# Altium footprint library Components - 09.08.24 - 10.35.PcbLib: 1 footprints
Each footprint in its own frame and in the unit in brackets; x right, y up, seen from the top. Pads: shape width x height; smd on the part's side, far side on the other; paste and mask are expansions set on the pad; w line width, h text height; cw(c..) or ccw(c..) is an arc to the next point about the centre after c.
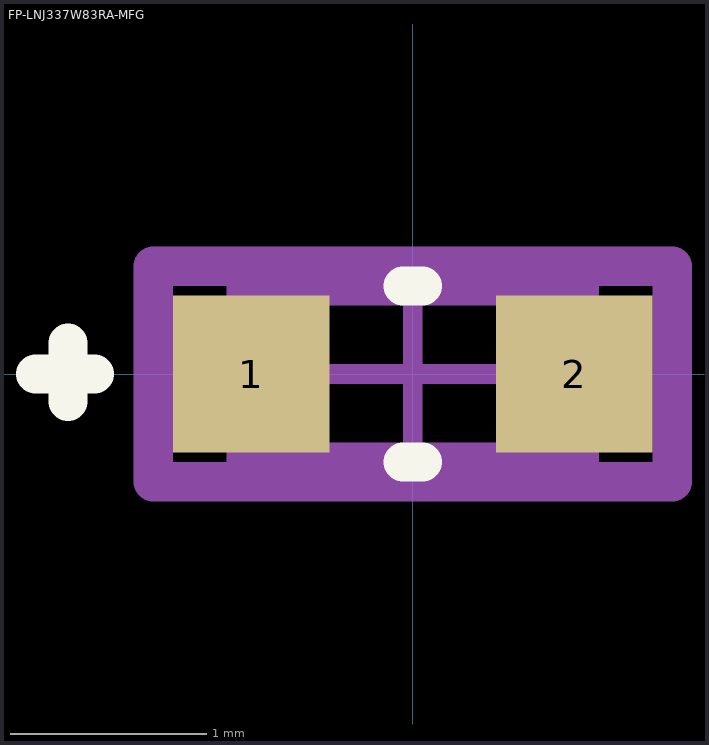
[diagram p0: the footprint, top view; thin cyan lines are the x and y axes]

## FP-LNJ337W83RA-MFG [mm]
pads (2):
  rect 0.8x0.8 smd paste+0 mask+0: 1(-0.825,0) 2(0.825,0)
Top Overlay:
  lines w0.2: -1.925,0 -1.625,0 ; -1.761,-0.141 -1.761,0.159 ; -0.05,-0.45 0.05,-0.45 ; -0.05,0.45 0.05,0.45
Top Assembly:
  lines w0.2: -1.325,-0.55 -1.325,0.55 1.325,0.55 1.325,-0.55 -1.325,-0.55
  text ".Designator" at 0,-0.001 h1
Top 3D Body:
  lines w0.2: -0.85,-0.45 -0.85,0.45 0.85,0.45 0.85,-0.45 -0.85,-0.45
Top Courtyard:
  lines w0.2: -1.325,-0.55 -1.325,0.55 1.325,0.55 1.325,-0.55 -1.325,-0.55
Top Component Center:
  lines w0.1: -0.5,0 0.5,0 ; 0,-0.5 0,0.5
3D body "Diode_Panasonic_LNJ337W83RA_eec.STEP": height 0.25, standoff 0, extent -1.325,-0.55 1.325,0.55